# Altium integrated library WD Communication Protocol Controller.IntLib: 39 symbols
Pins are listed as number, name and electrical type; pins without a type are passive.

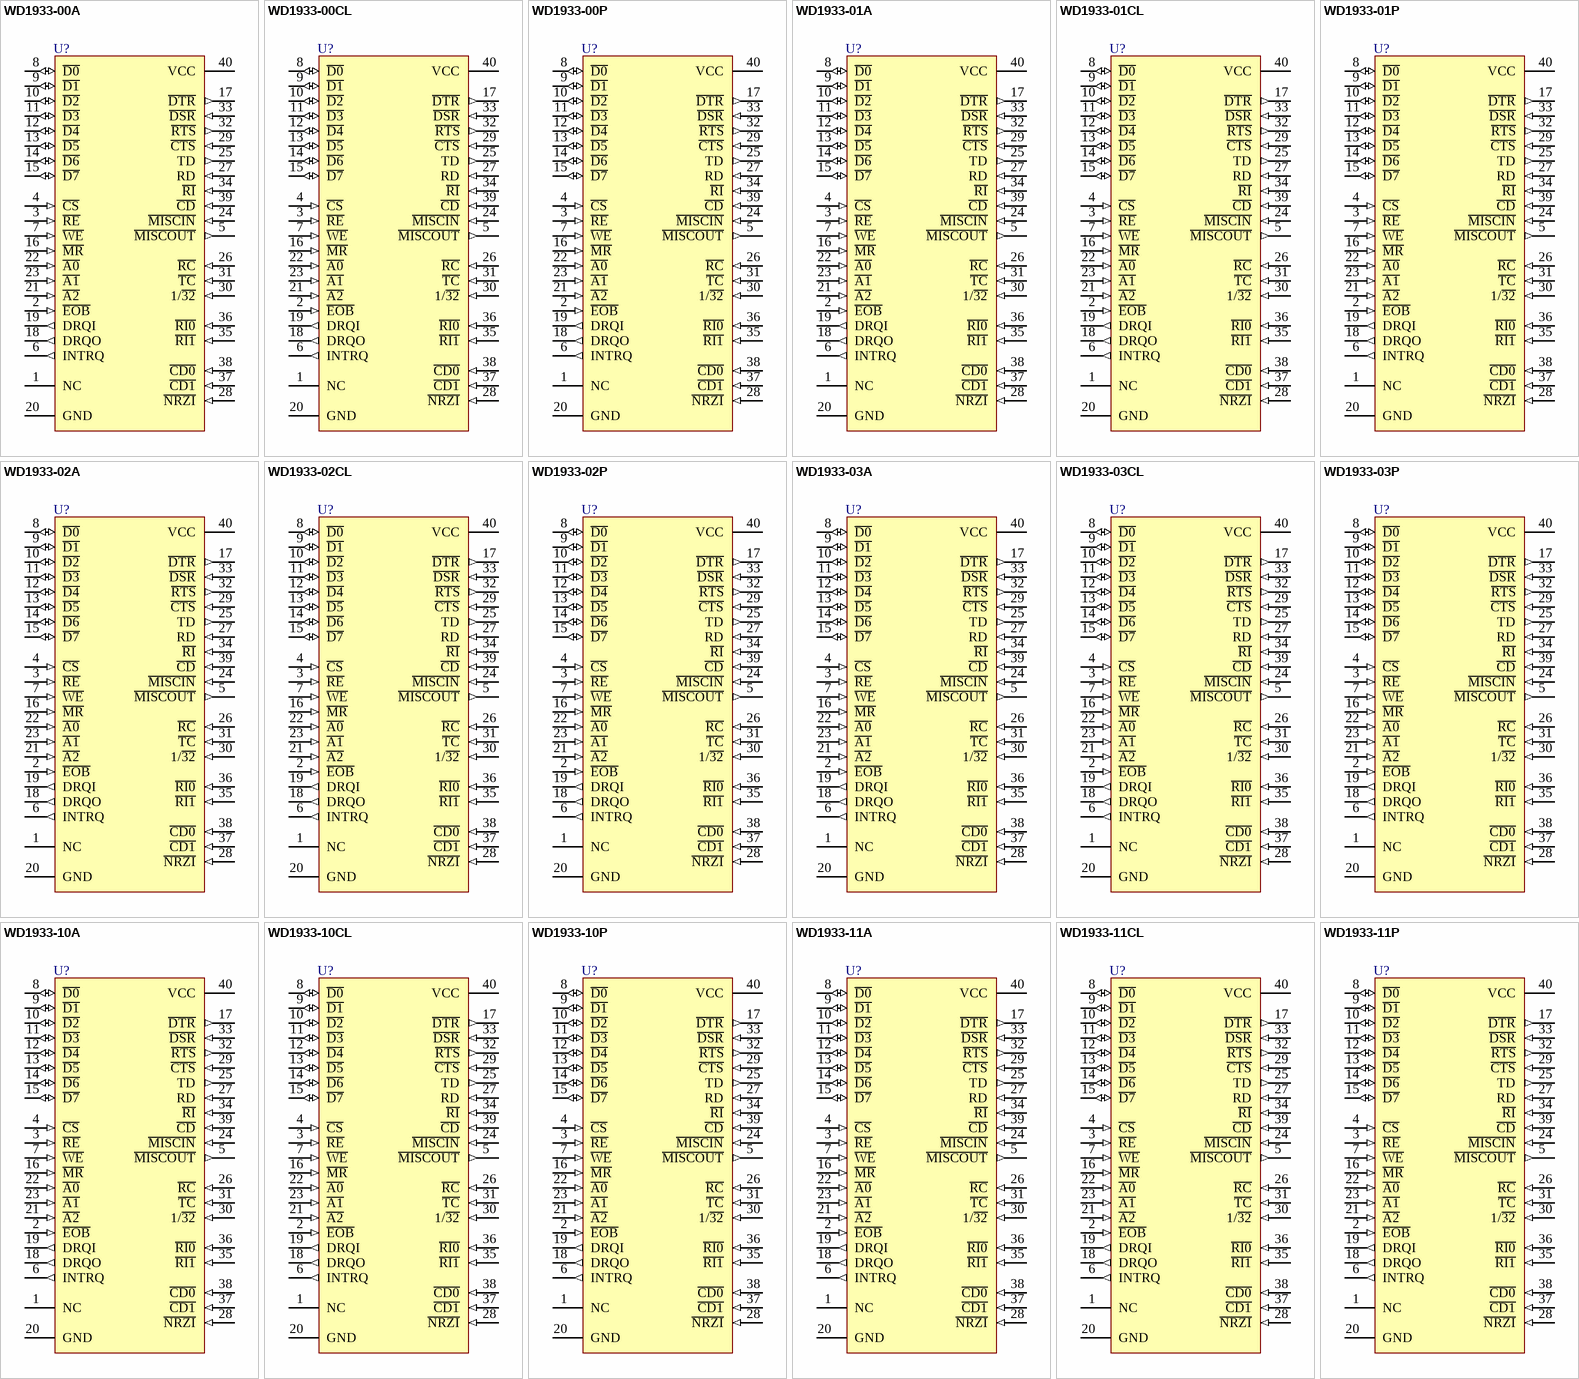
[diagram p0: symbols WD1933-00A to WD1933-11P]

## WD1933-00A
designator U?
Synchronous Data Link Controller; PackageDocument: 1984; Published: 8-Jun-2000; LatestRevisionDate: 4-Mar-2005; LatestRevisionNote: Stylized 3D Model Added.; DatasheetDocument: 1984; PackageReference: A40; Publisher: Altium Limited; ComponentLink1Description: Manufacturer Link; ComponentLink1URL: http://www.wdc.com/
footprint A40 (DIP; 40 Leads; Row Spacing 15.24 mm; Pitch 2.54 mm)
3D model A40 (DIP; 40 Leads; Row Spacing 15.24 mm; Pitch 2.54 mm)
pins: 1 NC, 2 ~{EOB} (in), 3 ~{RE} (in), 4 ~{CS} (in), 5 ~{MISCOUT} (out), 6 INTRQ (out), 7 ~{WE} (in), 8 ~{D0} (io), 9 ~{D1} (io), 10 ~{D2} (io), 11 ~{D3} (io), 12 ~{D4} (io), 13 ~{D5} (io), 14 ~{D6} (io), 15 ~{D7} (io), 16 ~{MR} (in), 17 ~{DTR} (out), 18 DRQO (out), 19 DRQI (out), 20 GND (power), 21 ~{A2} (in), 22 ~{A0} (in), 23 ~{A1} (in), 24 ~{MISCIN} (in), 25 TD (out), 26 ~{RC} (in), 27 RD (in), 28 ~{NRZI} (in), 29 ~{CTS} (in), 30 1/~{32} (in), 31 ~{TC} (in), 32 ~{RTS} (out), 33 ~{DSR} (in), 34 ~{RI} (in), 35 ~{RI1} (in), 36 ~{RI0} (in), 37 ~{CD1} (in), 38 ~{CD0} (in), 39 ~{CD} (in), 40 VCC (power)

## WD1933-00CL
designator U?
Synchronous Data Link Controller; PackageDocument: 1984; Published: 8-Jun-2000; LatestRevisionDate: 4-Mar-2005; LatestRevisionNote: Stylized 3D Model Added.; DatasheetDocument: 1984; PackageReference: CL40; Publisher: Altium Limited; ComponentLink1Description: Manufacturer Link; ComponentLink1URL: http://www.wdc.com/
footprint CL40 (DIP; 40 Leads; Row Spacing 15.24 mm; Pitch 2.54 mm)
3D model P40 (DIP; 40 Leads; Row Spacing 15.24 mm; Pitch 2.54 mm)
pins: 1 NC, 2 ~{EOB} (in), 3 ~{RE} (in), 4 ~{CS} (in), 5 ~{MISCOUT} (out), 6 INTRQ (out), 7 ~{WE} (in), 8 ~{D0} (io), 9 ~{D1} (io), 10 ~{D2} (io), 11 ~{D3} (io), 12 ~{D4} (io), 13 ~{D5} (io), 14 ~{D6} (io), 15 ~{D7} (io), 16 ~{MR} (in), 17 ~{DTR} (out), 18 DRQO (out), 19 DRQI (out), 20 GND (power), 21 ~{A2} (in), 22 ~{A0} (in), 23 ~{A1} (in), 24 ~{MISCIN} (in), 25 TD (out), 26 ~{RC} (in), 27 RD (in), 28 ~{NRZI} (in), 29 ~{CTS} (in), 30 1/~{32} (in), 31 ~{TC} (in), 32 ~{RTS} (out), 33 ~{DSR} (in), 34 ~{RI} (in), 35 ~{RI1} (in), 36 ~{RI0} (in), 37 ~{CD1} (in), 38 ~{CD0} (in), 39 ~{CD} (in), 40 VCC (power)

## WD1933-00P
designator U?
Synchronous Data Link Controller; PackageDocument: 1984; Published: 8-Jun-2000; LatestRevisionDate: 4-Mar-2005; LatestRevisionNote: Stylized 3D Model Added.; DatasheetDocument: 1984; PackageReference: P40; Publisher: Altium Limited; ComponentLink1Description: Manufacturer Link; ComponentLink1URL: http://www.wdc.com/
footprint P40 (DIP; 40 Leads; Row Spacing 15.24 mm; Pitch 2.54 mm)
3D model P40 (DIP; 40 Leads; Row Spacing 15.24 mm; Pitch 2.54 mm)
pins: 1 NC, 2 ~{EOB} (in), 3 ~{RE} (in), 4 ~{CS} (in), 5 ~{MISCOUT} (out), 6 INTRQ (out), 7 ~{WE} (in), 8 ~{D0} (io), 9 ~{D1} (io), 10 ~{D2} (io), 11 ~{D3} (io), 12 ~{D4} (io), 13 ~{D5} (io), 14 ~{D6} (io), 15 ~{D7} (io), 16 ~{MR} (in), 17 ~{DTR} (out), 18 DRQO (out), 19 DRQI (out), 20 GND (power), 21 ~{A2} (in), 22 ~{A0} (in), 23 ~{A1} (in), 24 ~{MISCIN} (in), 25 TD (out), 26 ~{RC} (in), 27 RD (in), 28 ~{NRZI} (in), 29 ~{CTS} (in), 30 1/~{32} (in), 31 ~{TC} (in), 32 ~{RTS} (out), 33 ~{DSR} (in), 34 ~{RI} (in), 35 ~{RI1} (in), 36 ~{RI0} (in), 37 ~{CD1} (in), 38 ~{CD0} (in), 39 ~{CD} (in), 40 VCC (power)

## WD1933-01A
designator U?
Synchronous Data Link Controller; PackageDocument: 1984; Published: 8-Jun-2000; LatestRevisionDate: 4-Mar-2005; LatestRevisionNote: Stylized 3D Model Added.; DatasheetDocument: 1984; PackageReference: A40; Publisher: Altium Limited; ComponentLink1Description: Manufacturer Link; ComponentLink1URL: http://www.wdc.com/
footprint A40 (DIP; 40 Leads; Row Spacing 15.24 mm; Pitch 2.54 mm)
3D model A40 (DIP; 40 Leads; Row Spacing 15.24 mm; Pitch 2.54 mm)
pins: 1 NC, 2 ~{EOB} (in), 3 ~{RE} (in), 4 ~{CS} (in), 5 ~{MISCOUT} (out), 6 INTRQ (out), 7 ~{WE} (in), 8 ~{D0} (io), 9 ~{D1} (io), 10 ~{D2} (io), 11 ~{D3} (io), 12 ~{D4} (io), 13 ~{D5} (io), 14 ~{D6} (io), 15 ~{D7} (io), 16 ~{MR} (in), 17 ~{DTR} (out), 18 DRQO (out), 19 DRQI (out), 20 GND (power), 21 ~{A2} (in), 22 ~{A0} (in), 23 ~{A1} (in), 24 ~{MISCIN} (in), 25 TD (out), 26 ~{RC} (in), 27 RD (in), 28 ~{NRZI} (in), 29 ~{CTS} (in), 30 1/~{32} (in), 31 ~{TC} (in), 32 ~{RTS} (out), 33 ~{DSR} (in), 34 ~{RI} (in), 35 ~{RI1} (in), 36 ~{RI0} (in), 37 ~{CD1} (in), 38 ~{CD0} (in), 39 ~{CD} (in), 40 VCC (power)

## WD1933-01CL
designator U?
Synchronous Data Link Controller; PackageDocument: 1984; Published: 8-Jun-2000; LatestRevisionDate: 4-Mar-2005; LatestRevisionNote: Stylized 3D Model Added.; DatasheetDocument: 1984; PackageReference: CL40; Publisher: Altium Limited; ComponentLink1Description: Manufacturer Link; ComponentLink1URL: http://www.wdc.com/
footprint CL40 (DIP; 40 Leads; Row Spacing 15.24 mm; Pitch 2.54 mm)
3D model P40 (DIP; 40 Leads; Row Spacing 15.24 mm; Pitch 2.54 mm)
pins: 1 NC, 2 ~{EOB} (in), 3 ~{RE} (in), 4 ~{CS} (in), 5 ~{MISCOUT} (out), 6 INTRQ (out), 7 ~{WE} (in), 8 ~{D0} (io), 9 ~{D1} (io), 10 ~{D2} (io), 11 ~{D3} (io), 12 ~{D4} (io), 13 ~{D5} (io), 14 ~{D6} (io), 15 ~{D7} (io), 16 ~{MR} (in), 17 ~{DTR} (out), 18 DRQO (out), 19 DRQI (out), 20 GND (power), 21 ~{A2} (in), 22 ~{A0} (in), 23 ~{A1} (in), 24 ~{MISCIN} (in), 25 TD (out), 26 ~{RC} (in), 27 RD (in), 28 ~{NRZI} (in), 29 ~{CTS} (in), 30 1/~{32} (in), 31 ~{TC} (in), 32 ~{RTS} (out), 33 ~{DSR} (in), 34 ~{RI} (in), 35 ~{RI1} (in), 36 ~{RI0} (in), 37 ~{CD1} (in), 38 ~{CD0} (in), 39 ~{CD} (in), 40 VCC (power)

## WD1933-01P
designator U?
Synchronous Data Link Controller; PackageDocument: 1984; Published: 8-Jun-2000; LatestRevisionDate: 4-Mar-2005; LatestRevisionNote: Stylized 3D Model Added.; DatasheetDocument: 1984; PackageReference: P40; Publisher: Altium Limited; ComponentLink1Description: Manufacturer Link; ComponentLink1URL: http://www.wdc.com/
footprint P40 (DIP; 40 Leads; Row Spacing 15.24 mm; Pitch 2.54 mm)
3D model P40 (DIP; 40 Leads; Row Spacing 15.24 mm; Pitch 2.54 mm)
pins: 1 NC, 2 ~{EOB} (in), 3 ~{RE} (in), 4 ~{CS} (in), 5 ~{MISCOUT} (out), 6 INTRQ (out), 7 ~{WE} (in), 8 ~{D0} (io), 9 ~{D1} (io), 10 ~{D2} (io), 11 ~{D3} (io), 12 ~{D4} (io), 13 ~{D5} (io), 14 ~{D6} (io), 15 ~{D7} (io), 16 ~{MR} (in), 17 ~{DTR} (out), 18 DRQO (out), 19 DRQI (out), 20 GND (power), 21 ~{A2} (in), 22 ~{A0} (in), 23 ~{A1} (in), 24 ~{MISCIN} (in), 25 TD (out), 26 ~{RC} (in), 27 RD (in), 28 ~{NRZI} (in), 29 ~{CTS} (in), 30 1/~{32} (in), 31 ~{TC} (in), 32 ~{RTS} (out), 33 ~{DSR} (in), 34 ~{RI} (in), 35 ~{RI1} (in), 36 ~{RI0} (in), 37 ~{CD1} (in), 38 ~{CD0} (in), 39 ~{CD} (in), 40 VCC (power)

## WD1933-02A
designator U?
Synchronous Data Link Controller; PackageDocument: 1984; Published: 8-Jun-2000; LatestRevisionDate: 4-Mar-2005; LatestRevisionNote: Stylized 3D Model Added.; DatasheetDocument: 1984; PackageReference: A40; Publisher: Altium Limited; ComponentLink1Description: Manufacturer Link; ComponentLink1URL: http://www.wdc.com/
footprint A40 (DIP; 40 Leads; Row Spacing 15.24 mm; Pitch 2.54 mm)
3D model A40 (DIP; 40 Leads; Row Spacing 15.24 mm; Pitch 2.54 mm)
pins: 1 NC, 2 ~{EOB} (in), 3 ~{RE} (in), 4 ~{CS} (in), 5 ~{MISCOUT} (out), 6 INTRQ (out), 7 ~{WE} (in), 8 ~{D0} (io), 9 ~{D1} (io), 10 ~{D2} (io), 11 ~{D3} (io), 12 ~{D4} (io), 13 ~{D5} (io), 14 ~{D6} (io), 15 ~{D7} (io), 16 ~{MR} (in), 17 ~{DTR} (out), 18 DRQO (out), 19 DRQI (out), 20 GND (power), 21 ~{A2} (in), 22 ~{A0} (in), 23 ~{A1} (in), 24 ~{MISCIN} (in), 25 TD (out), 26 ~{RC} (in), 27 RD (in), 28 ~{NRZI} (in), 29 ~{CTS} (in), 30 1/~{32} (in), 31 ~{TC} (in), 32 ~{RTS} (out), 33 ~{DSR} (in), 34 ~{RI} (in), 35 ~{RI1} (in), 36 ~{RI0} (in), 37 ~{CD1} (in), 38 ~{CD0} (in), 39 ~{CD} (in), 40 VCC (power)

## WD1933-02CL
designator U?
Synchronous Data Link Controller; PackageDocument: 1984; Published: 8-Jun-2000; LatestRevisionDate: 4-Mar-2005; LatestRevisionNote: Stylized 3D Model Added.; DatasheetDocument: 1984; PackageReference: CL40; Publisher: Altium Limited; ComponentLink1Description: Manufacturer Link; ComponentLink1URL: http://www.wdc.com/
footprint CL40 (DIP; 40 Leads; Row Spacing 15.24 mm; Pitch 2.54 mm)
3D model P40 (DIP; 40 Leads; Row Spacing 15.24 mm; Pitch 2.54 mm)
pins: 1 NC, 2 ~{EOB} (in), 3 ~{RE} (in), 4 ~{CS} (in), 5 ~{MISCOUT} (out), 6 INTRQ (out), 7 ~{WE} (in), 8 ~{D0} (io), 9 ~{D1} (io), 10 ~{D2} (io), 11 ~{D3} (io), 12 ~{D4} (io), 13 ~{D5} (io), 14 ~{D6} (io), 15 ~{D7} (io), 16 ~{MR} (in), 17 ~{DTR} (out), 18 DRQO (out), 19 DRQI (out), 20 GND (power), 21 ~{A2} (in), 22 ~{A0} (in), 23 ~{A1} (in), 24 ~{MISCIN} (in), 25 TD (out), 26 ~{RC} (in), 27 RD (in), 28 ~{NRZI} (in), 29 ~{CTS} (in), 30 1/~{32} (in), 31 ~{TC} (in), 32 ~{RTS} (out), 33 ~{DSR} (in), 34 ~{RI} (in), 35 ~{RI1} (in), 36 ~{RI0} (in), 37 ~{CD1} (in), 38 ~{CD0} (in), 39 ~{CD} (in), 40 VCC (power)

## WD1933-02P
designator U?
Synchronous Data Link Controller; PackageDocument: 1984; Published: 8-Jun-2000; LatestRevisionDate: 4-Mar-2005; LatestRevisionNote: Stylized 3D Model Added.; DatasheetDocument: 1984; PackageReference: P40; Publisher: Altium Limited; ComponentLink1Description: Manufacturer Link; ComponentLink1URL: http://www.wdc.com/
footprint P40 (DIP; 40 Leads; Row Spacing 15.24 mm; Pitch 2.54 mm)
3D model P40 (DIP; 40 Leads; Row Spacing 15.24 mm; Pitch 2.54 mm)
pins: 1 NC, 2 ~{EOB} (in), 3 ~{RE} (in), 4 ~{CS} (in), 5 ~{MISCOUT} (out), 6 INTRQ (out), 7 ~{WE} (in), 8 ~{D0} (io), 9 ~{D1} (io), 10 ~{D2} (io), 11 ~{D3} (io), 12 ~{D4} (io), 13 ~{D5} (io), 14 ~{D6} (io), 15 ~{D7} (io), 16 ~{MR} (in), 17 ~{DTR} (out), 18 DRQO (out), 19 DRQI (out), 20 GND (power), 21 ~{A2} (in), 22 ~{A0} (in), 23 ~{A1} (in), 24 ~{MISCIN} (in), 25 TD (out), 26 ~{RC} (in), 27 RD (in), 28 ~{NRZI} (in), 29 ~{CTS} (in), 30 1/~{32} (in), 31 ~{TC} (in), 32 ~{RTS} (out), 33 ~{DSR} (in), 34 ~{RI} (in), 35 ~{RI1} (in), 36 ~{RI0} (in), 37 ~{CD1} (in), 38 ~{CD0} (in), 39 ~{CD} (in), 40 VCC (power)

## WD1933-03A
designator U?
Synchronous Data Link Controller; PackageDocument: 1984; Published: 8-Jun-2000; LatestRevisionDate: 4-Mar-2005; LatestRevisionNote: Stylized 3D Model Added.; DatasheetDocument: 1984; PackageReference: A40; Publisher: Altium Limited; ComponentLink1Description: Manufacturer Link; ComponentLink1URL: http://www.wdc.com/
footprint A40 (DIP; 40 Leads; Row Spacing 15.24 mm; Pitch 2.54 mm)
3D model A40 (DIP; 40 Leads; Row Spacing 15.24 mm; Pitch 2.54 mm)
pins: 1 NC, 2 ~{EOB} (in), 3 ~{RE} (in), 4 ~{CS} (in), 5 ~{MISCOUT} (out), 6 INTRQ (out), 7 ~{WE} (in), 8 ~{D0} (io), 9 ~{D1} (io), 10 ~{D2} (io), 11 ~{D3} (io), 12 ~{D4} (io), 13 ~{D5} (io), 14 ~{D6} (io), 15 ~{D7} (io), 16 ~{MR} (in), 17 ~{DTR} (out), 18 DRQO (out), 19 DRQI (out), 20 GND (power), 21 ~{A2} (in), 22 ~{A0} (in), 23 ~{A1} (in), 24 ~{MISCIN} (in), 25 TD (out), 26 ~{RC} (in), 27 RD (in), 28 ~{NRZI} (in), 29 ~{CTS} (in), 30 1/~{32} (in), 31 ~{TC} (in), 32 ~{RTS} (out), 33 ~{DSR} (in), 34 ~{RI} (in), 35 ~{RI1} (in), 36 ~{RI0} (in), 37 ~{CD1} (in), 38 ~{CD0} (in), 39 ~{CD} (in), 40 VCC (power)

## WD1933-03CL
designator U?
Synchronous Data Link Controller; PackageDocument: 1984; Published: 8-Jun-2000; LatestRevisionDate: 4-Mar-2005; LatestRevisionNote: Stylized 3D Model Added.; DatasheetDocument: 1984; PackageReference: CL40; Publisher: Altium Limited; ComponentLink1Description: Manufacturer Link; ComponentLink1URL: http://www.wdc.com/
footprint CL40 (DIP; 40 Leads; Row Spacing 15.24 mm; Pitch 2.54 mm)
3D model P40 (DIP; 40 Leads; Row Spacing 15.24 mm; Pitch 2.54 mm)
pins: 1 NC, 2 ~{EOB} (in), 3 ~{RE} (in), 4 ~{CS} (in), 5 ~{MISCOUT} (out), 6 INTRQ (out), 7 ~{WE} (in), 8 ~{D0} (io), 9 ~{D1} (io), 10 ~{D2} (io), 11 ~{D3} (io), 12 ~{D4} (io), 13 ~{D5} (io), 14 ~{D6} (io), 15 ~{D7} (io), 16 ~{MR} (in), 17 ~{DTR} (out), 18 DRQO (out), 19 DRQI (out), 20 GND (power), 21 ~{A2} (in), 22 ~{A0} (in), 23 ~{A1} (in), 24 ~{MISCIN} (in), 25 TD (out), 26 ~{RC} (in), 27 RD (in), 28 ~{NRZI} (in), 29 ~{CTS} (in), 30 1/~{32} (in), 31 ~{TC} (in), 32 ~{RTS} (out), 33 ~{DSR} (in), 34 ~{RI} (in), 35 ~{RI1} (in), 36 ~{RI0} (in), 37 ~{CD1} (in), 38 ~{CD0} (in), 39 ~{CD} (in), 40 VCC (power)

## WD1933-03P
designator U?
Synchronous Data Link Controller; PackageDocument: 1984; Published: 8-Jun-2000; LatestRevisionDate: 4-Mar-2005; LatestRevisionNote: Stylized 3D Model Added.; DatasheetDocument: 1984; PackageReference: P40; Publisher: Altium Limited; ComponentLink1Description: Manufacturer Link; ComponentLink1URL: http://www.wdc.com/
footprint P40 (DIP; 40 Leads; Row Spacing 15.24 mm; Pitch 2.54 mm)
3D model P40 (DIP; 40 Leads; Row Spacing 15.24 mm; Pitch 2.54 mm)
pins: 1 NC, 2 ~{EOB} (in), 3 ~{RE} (in), 4 ~{CS} (in), 5 ~{MISCOUT} (out), 6 INTRQ (out), 7 ~{WE} (in), 8 ~{D0} (io), 9 ~{D1} (io), 10 ~{D2} (io), 11 ~{D3} (io), 12 ~{D4} (io), 13 ~{D5} (io), 14 ~{D6} (io), 15 ~{D7} (io), 16 ~{MR} (in), 17 ~{DTR} (out), 18 DRQO (out), 19 DRQI (out), 20 GND (power), 21 ~{A2} (in), 22 ~{A0} (in), 23 ~{A1} (in), 24 ~{MISCIN} (in), 25 TD (out), 26 ~{RC} (in), 27 RD (in), 28 ~{NRZI} (in), 29 ~{CTS} (in), 30 1/~{32} (in), 31 ~{TC} (in), 32 ~{RTS} (out), 33 ~{DSR} (in), 34 ~{RI} (in), 35 ~{RI1} (in), 36 ~{RI0} (in), 37 ~{CD1} (in), 38 ~{CD0} (in), 39 ~{CD} (in), 40 VCC (power)

## WD1933-10A
designator U?
Synchronous Data Link Controller; PackageDocument: 1984; Published: 8-Jun-2000; LatestRevisionDate: 4-Mar-2005; LatestRevisionNote: Stylized 3D Model Added.; DatasheetDocument: 1984; PackageReference: A40; Publisher: Altium Limited; ComponentLink1Description: Manufacturer Link; ComponentLink1URL: http://www.wdc.com/
footprint A40 (DIP; 40 Leads; Row Spacing 15.24 mm; Pitch 2.54 mm)
3D model A40 (DIP; 40 Leads; Row Spacing 15.24 mm; Pitch 2.54 mm)
pins: 1 NC, 2 ~{EOB} (in), 3 ~{RE} (in), 4 ~{CS} (in), 5 ~{MISCOUT} (out), 6 INTRQ (out), 7 ~{WE} (in), 8 ~{D0} (io), 9 ~{D1} (io), 10 ~{D2} (io), 11 ~{D3} (io), 12 ~{D4} (io), 13 ~{D5} (io), 14 ~{D6} (io), 15 ~{D7} (io), 16 ~{MR} (in), 17 ~{DTR} (out), 18 DRQO (out), 19 DRQI (out), 20 GND (power), 21 ~{A2} (in), 22 ~{A0} (in), 23 ~{A1} (in), 24 ~{MISCIN} (in), 25 TD (out), 26 ~{RC} (in), 27 RD (in), 28 ~{NRZI} (in), 29 ~{CTS} (in), 30 1/~{32} (in), 31 ~{TC} (in), 32 ~{RTS} (out), 33 ~{DSR} (in), 34 ~{RI} (in), 35 ~{RI1} (in), 36 ~{RI0} (in), 37 ~{CD1} (in), 38 ~{CD0} (in), 39 ~{CD} (in), 40 VCC (power)

## WD1933-10CL
designator U?
Synchronous Data Link Controller; PackageDocument: 1984; Published: 8-Jun-2000; LatestRevisionDate: 4-Mar-2005; LatestRevisionNote: Stylized 3D Model Added.; DatasheetDocument: 1984; PackageReference: CL40; Publisher: Altium Limited; ComponentLink1Description: Manufacturer Link; ComponentLink1URL: http://www.wdc.com/
footprint CL40 (DIP; 40 Leads; Row Spacing 15.24 mm; Pitch 2.54 mm)
3D model P40 (DIP; 40 Leads; Row Spacing 15.24 mm; Pitch 2.54 mm)
pins: 1 NC, 2 ~{EOB} (in), 3 ~{RE} (in), 4 ~{CS} (in), 5 ~{MISCOUT} (out), 6 INTRQ (out), 7 ~{WE} (in), 8 ~{D0} (io), 9 ~{D1} (io), 10 ~{D2} (io), 11 ~{D3} (io), 12 ~{D4} (io), 13 ~{D5} (io), 14 ~{D6} (io), 15 ~{D7} (io), 16 ~{MR} (in), 17 ~{DTR} (out), 18 DRQO (out), 19 DRQI (out), 20 GND (power), 21 ~{A2} (in), 22 ~{A0} (in), 23 ~{A1} (in), 24 ~{MISCIN} (in), 25 TD (out), 26 ~{RC} (in), 27 RD (in), 28 ~{NRZI} (in), 29 ~{CTS} (in), 30 1/~{32} (in), 31 ~{TC} (in), 32 ~{RTS} (out), 33 ~{DSR} (in), 34 ~{RI} (in), 35 ~{RI1} (in), 36 ~{RI0} (in), 37 ~{CD1} (in), 38 ~{CD0} (in), 39 ~{CD} (in), 40 VCC (power)

## WD1933-10P
designator U?
Synchronous Data Link Controller; PackageDocument: 1984; Published: 8-Jun-2000; LatestRevisionDate: 4-Mar-2005; LatestRevisionNote: Stylized 3D Model Added.; DatasheetDocument: 1984; PackageReference: P40; Publisher: Altium Limited; ComponentLink1Description: Manufacturer Link; ComponentLink1URL: http://www.wdc.com/
footprint P40 (DIP; 40 Leads; Row Spacing 15.24 mm; Pitch 2.54 mm)
3D model P40 (DIP; 40 Leads; Row Spacing 15.24 mm; Pitch 2.54 mm)
pins: 1 NC, 2 ~{EOB} (in), 3 ~{RE} (in), 4 ~{CS} (in), 5 ~{MISCOUT} (out), 6 INTRQ (out), 7 ~{WE} (in), 8 ~{D0} (io), 9 ~{D1} (io), 10 ~{D2} (io), 11 ~{D3} (io), 12 ~{D4} (io), 13 ~{D5} (io), 14 ~{D6} (io), 15 ~{D7} (io), 16 ~{MR} (in), 17 ~{DTR} (out), 18 DRQO (out), 19 DRQI (out), 20 GND (power), 21 ~{A2} (in), 22 ~{A0} (in), 23 ~{A1} (in), 24 ~{MISCIN} (in), 25 TD (out), 26 ~{RC} (in), 27 RD (in), 28 ~{NRZI} (in), 29 ~{CTS} (in), 30 1/~{32} (in), 31 ~{TC} (in), 32 ~{RTS} (out), 33 ~{DSR} (in), 34 ~{RI} (in), 35 ~{RI1} (in), 36 ~{RI0} (in), 37 ~{CD1} (in), 38 ~{CD0} (in), 39 ~{CD} (in), 40 VCC (power)

## WD1933-11A
designator U?
Synchronous Data Link Controller; PackageDocument: 1984; Published: 8-Jun-2000; LatestRevisionDate: 4-Mar-2005; LatestRevisionNote: Stylized 3D Model Added.; DatasheetDocument: 1984; PackageReference: A40; Publisher: Altium Limited; ComponentLink1Description: Manufacturer Link; ComponentLink1URL: http://www.wdc.com/
footprint A40 (DIP; 40 Leads; Row Spacing 15.24 mm; Pitch 2.54 mm)
3D model A40 (DIP; 40 Leads; Row Spacing 15.24 mm; Pitch 2.54 mm)
pins: 1 NC, 2 ~{EOB} (in), 3 ~{RE} (in), 4 ~{CS} (in), 5 ~{MISCOUT} (out), 6 INTRQ (out), 7 ~{WE} (in), 8 ~{D0} (io), 9 ~{D1} (io), 10 ~{D2} (io), 11 ~{D3} (io), 12 ~{D4} (io), 13 ~{D5} (io), 14 ~{D6} (io), 15 ~{D7} (io), 16 ~{MR} (in), 17 ~{DTR} (out), 18 DRQO (out), 19 DRQI (out), 20 GND (power), 21 ~{A2} (in), 22 ~{A0} (in), 23 ~{A1} (in), 24 ~{MISCIN} (in), 25 TD (out), 26 ~{RC} (in), 27 RD (in), 28 ~{NRZI} (in), 29 ~{CTS} (in), 30 1/~{32} (in), 31 ~{TC} (in), 32 ~{RTS} (out), 33 ~{DSR} (in), 34 ~{RI} (in), 35 ~{RI1} (in), 36 ~{RI0} (in), 37 ~{CD1} (in), 38 ~{CD0} (in), 39 ~{CD} (in), 40 VCC (power)

## WD1933-11CL
designator U?
Synchronous Data Link Controller; PackageDocument: 1984; Published: 8-Jun-2000; LatestRevisionDate: 4-Mar-2005; LatestRevisionNote: Stylized 3D Model Added.; DatasheetDocument: 1984; PackageReference: CL40; Publisher: Altium Limited; ComponentLink1Description: Manufacturer Link; ComponentLink1URL: http://www.wdc.com/
footprint CL40 (DIP; 40 Leads; Row Spacing 15.24 mm; Pitch 2.54 mm)
3D model P40 (DIP; 40 Leads; Row Spacing 15.24 mm; Pitch 2.54 mm)
pins: 1 NC, 2 ~{EOB} (in), 3 ~{RE} (in), 4 ~{CS} (in), 5 ~{MISCOUT} (out), 6 INTRQ (out), 7 ~{WE} (in), 8 ~{D0} (io), 9 ~{D1} (io), 10 ~{D2} (io), 11 ~{D3} (io), 12 ~{D4} (io), 13 ~{D5} (io), 14 ~{D6} (io), 15 ~{D7} (io), 16 ~{MR} (in), 17 ~{DTR} (out), 18 DRQO (out), 19 DRQI (out), 20 GND (power), 21 ~{A2} (in), 22 ~{A0} (in), 23 ~{A1} (in), 24 ~{MISCIN} (in), 25 TD (out), 26 ~{RC} (in), 27 RD (in), 28 ~{NRZI} (in), 29 ~{CTS} (in), 30 1/~{32} (in), 31 ~{TC} (in), 32 ~{RTS} (out), 33 ~{DSR} (in), 34 ~{RI} (in), 35 ~{RI1} (in), 36 ~{RI0} (in), 37 ~{CD1} (in), 38 ~{CD0} (in), 39 ~{CD} (in), 40 VCC (power)

## WD1933-11P
designator U?
Synchronous Data Link Controller; PackageDocument: 1984; Published: 8-Jun-2000; LatestRevisionDate: 4-Mar-2005; LatestRevisionNote: Stylized 3D Model Added.; DatasheetDocument: 1984; PackageReference: P40; Publisher: Altium Limited; ComponentLink1Description: Manufacturer Link; ComponentLink1URL: http://www.wdc.com/
footprint P40 (DIP; 40 Leads; Row Spacing 15.24 mm; Pitch 2.54 mm)
3D model P40 (DIP; 40 Leads; Row Spacing 15.24 mm; Pitch 2.54 mm)
pins: 1 NC, 2 ~{EOB} (in), 3 ~{RE} (in), 4 ~{CS} (in), 5 ~{MISCOUT} (out), 6 INTRQ (out), 7 ~{WE} (in), 8 ~{D0} (io), 9 ~{D1} (io), 10 ~{D2} (io), 11 ~{D3} (io), 12 ~{D4} (io), 13 ~{D5} (io), 14 ~{D6} (io), 15 ~{D7} (io), 16 ~{MR} (in), 17 ~{DTR} (out), 18 DRQO (out), 19 DRQI (out), 20 GND (power), 21 ~{A2} (in), 22 ~{A0} (in), 23 ~{A1} (in), 24 ~{MISCIN} (in), 25 TD (out), 26 ~{RC} (in), 27 RD (in), 28 ~{NRZI} (in), 29 ~{CTS} (in), 30 1/~{32} (in), 31 ~{TC} (in), 32 ~{RTS} (out), 33 ~{DSR} (in), 34 ~{RI} (in), 35 ~{RI1} (in), 36 ~{RI0} (in), 37 ~{CD1} (in), 38 ~{CD0} (in), 39 ~{CD} (in), 40 VCC (power)

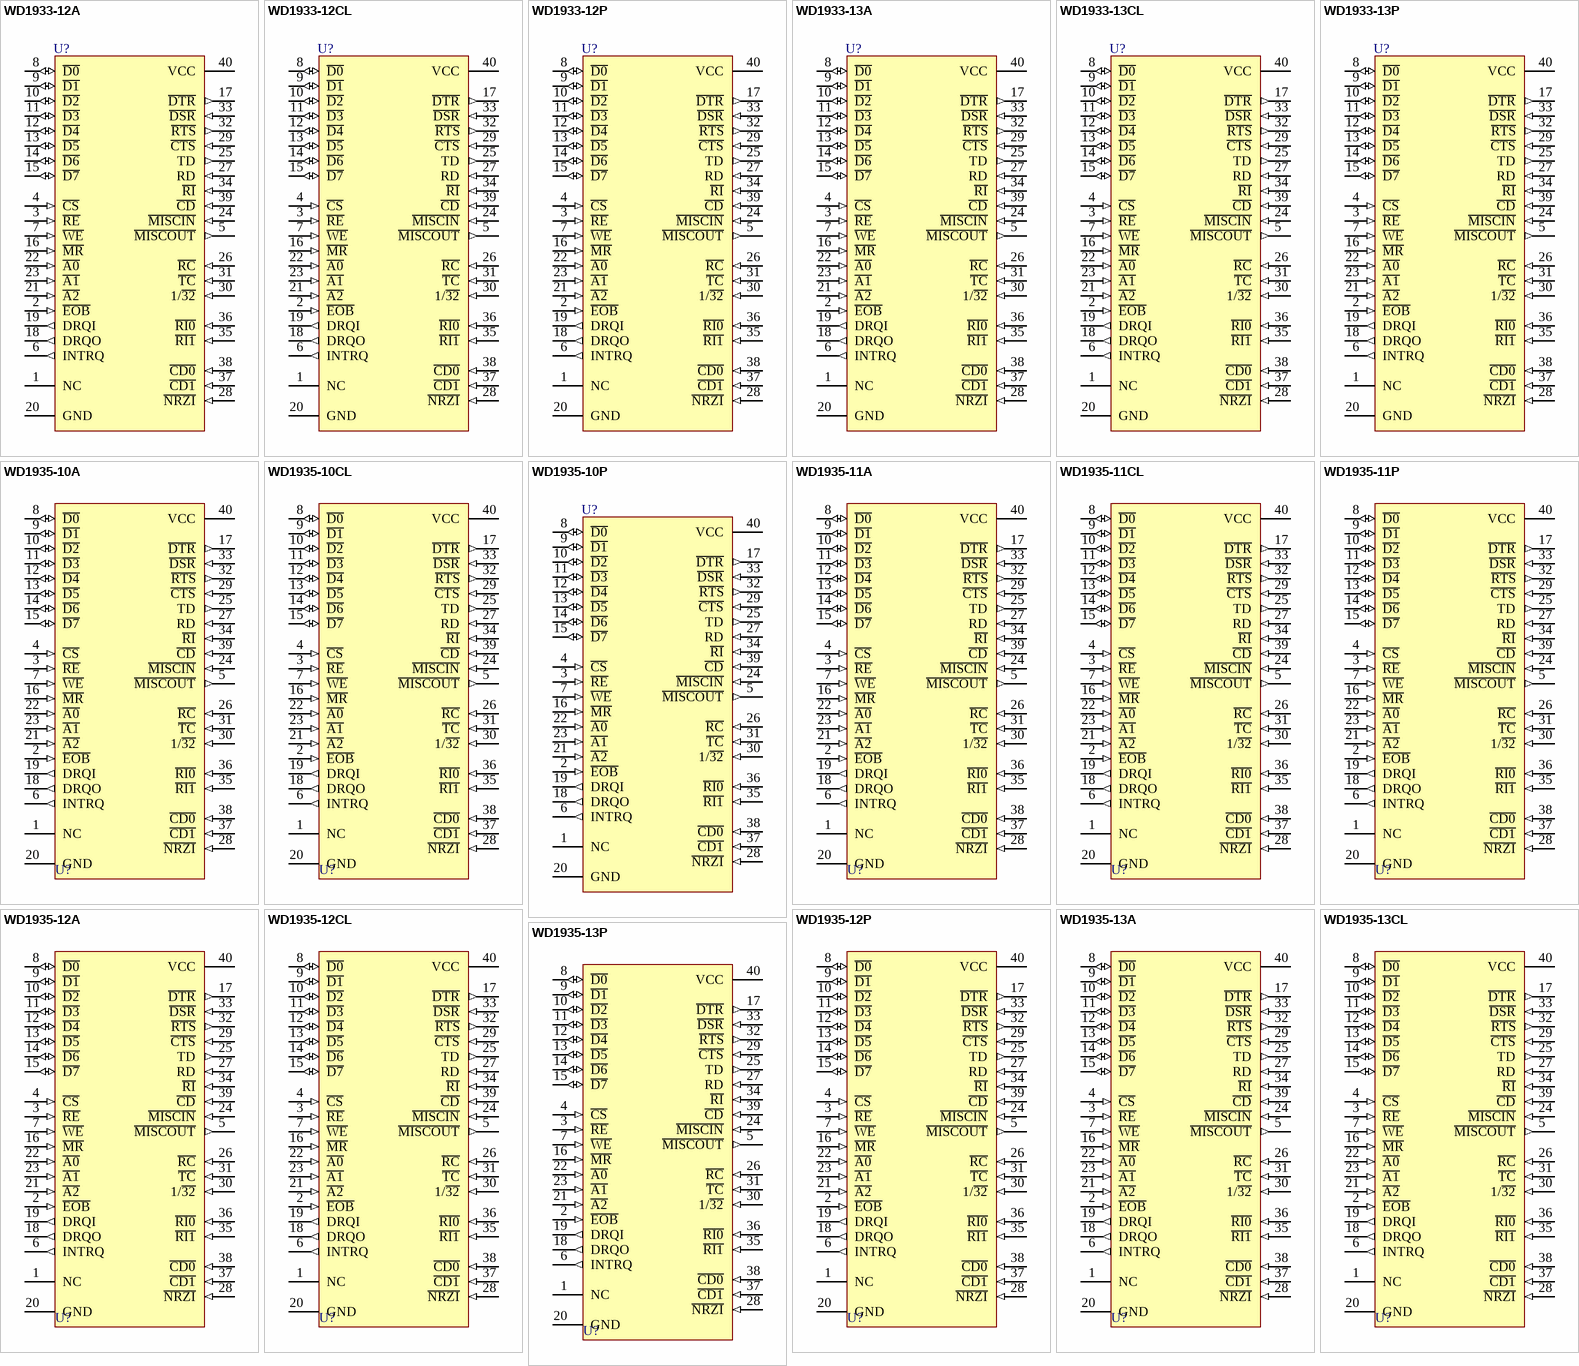
[diagram p1: symbols WD1933-12A to WD1935-13P]

## WD1933-12A
designator U?
Synchronous Data Link Controller; PackageDocument: 1984; Published: 8-Jun-2000; LatestRevisionDate: 4-Mar-2005; LatestRevisionNote: Stylized 3D Model Added.; DatasheetDocument: 1984; PackageReference: A40; Publisher: Altium Limited; ComponentLink1Description: Manufacturer Link; ComponentLink1URL: http://www.wdc.com/
footprint A40 (DIP; 40 Leads; Row Spacing 15.24 mm; Pitch 2.54 mm)
3D model A40 (DIP; 40 Leads; Row Spacing 15.24 mm; Pitch 2.54 mm)
pins: 1 NC, 2 ~{EOB} (in), 3 ~{RE} (in), 4 ~{CS} (in), 5 ~{MISCOUT} (out), 6 INTRQ (out), 7 ~{WE} (in), 8 ~{D0} (io), 9 ~{D1} (io), 10 ~{D2} (io), 11 ~{D3} (io), 12 ~{D4} (io), 13 ~{D5} (io), 14 ~{D6} (io), 15 ~{D7} (io), 16 ~{MR} (in), 17 ~{DTR} (out), 18 DRQO (out), 19 DRQI (out), 20 GND (power), 21 ~{A2} (in), 22 ~{A0} (in), 23 ~{A1} (in), 24 ~{MISCIN} (in), 25 TD (out), 26 ~{RC} (in), 27 RD (in), 28 ~{NRZI} (in), 29 ~{CTS} (in), 30 1/~{32} (in), 31 ~{TC} (in), 32 ~{RTS} (out), 33 ~{DSR} (in), 34 ~{RI} (in), 35 ~{RI1} (in), 36 ~{RI0} (in), 37 ~{CD1} (in), 38 ~{CD0} (in), 39 ~{CD} (in), 40 VCC (power)

## WD1933-12CL
designator U?
Synchronous Data Link Controller; PackageDocument: 1984; Published: 8-Jun-2000; LatestRevisionDate: 4-Mar-2005; LatestRevisionNote: Stylized 3D Model Added.; DatasheetDocument: 1984; PackageReference: CL40; Publisher: Altium Limited; ComponentLink1Description: Manufacturer Link; ComponentLink1URL: http://www.wdc.com/
footprint CL40 (DIP; 40 Leads; Row Spacing 15.24 mm; Pitch 2.54 mm)
3D model P40 (DIP; 40 Leads; Row Spacing 15.24 mm; Pitch 2.54 mm)
pins: 1 NC, 2 ~{EOB} (in), 3 ~{RE} (in), 4 ~{CS} (in), 5 ~{MISCOUT} (out), 6 INTRQ (out), 7 ~{WE} (in), 8 ~{D0} (io), 9 ~{D1} (io), 10 ~{D2} (io), 11 ~{D3} (io), 12 ~{D4} (io), 13 ~{D5} (io), 14 ~{D6} (io), 15 ~{D7} (io), 16 ~{MR} (in), 17 ~{DTR} (out), 18 DRQO (out), 19 DRQI (out), 20 GND (power), 21 ~{A2} (in), 22 ~{A0} (in), 23 ~{A1} (in), 24 ~{MISCIN} (in), 25 TD (out), 26 ~{RC} (in), 27 RD (in), 28 ~{NRZI} (in), 29 ~{CTS} (in), 30 1/~{32} (in), 31 ~{TC} (in), 32 ~{RTS} (out), 33 ~{DSR} (in), 34 ~{RI} (in), 35 ~{RI1} (in), 36 ~{RI0} (in), 37 ~{CD1} (in), 38 ~{CD0} (in), 39 ~{CD} (in), 40 VCC (power)

## WD1933-12P
designator U?
Synchronous Data Link Controller; PackageDocument: 1984; Published: 8-Jun-2000; LatestRevisionDate: 4-Mar-2005; LatestRevisionNote: Stylized 3D Model Added.; DatasheetDocument: 1984; PackageReference: P40; Publisher: Altium Limited; ComponentLink1Description: Manufacturer Link; ComponentLink1URL: http://www.wdc.com/
footprint P40 (DIP; 40 Leads; Row Spacing 15.24 mm; Pitch 2.54 mm)
3D model P40 (DIP; 40 Leads; Row Spacing 15.24 mm; Pitch 2.54 mm)
pins: 1 NC, 2 ~{EOB} (in), 3 ~{RE} (in), 4 ~{CS} (in), 5 ~{MISCOUT} (out), 6 INTRQ (out), 7 ~{WE} (in), 8 ~{D0} (io), 9 ~{D1} (io), 10 ~{D2} (io), 11 ~{D3} (io), 12 ~{D4} (io), 13 ~{D5} (io), 14 ~{D6} (io), 15 ~{D7} (io), 16 ~{MR} (in), 17 ~{DTR} (out), 18 DRQO (out), 19 DRQI (out), 20 GND (power), 21 ~{A2} (in), 22 ~{A0} (in), 23 ~{A1} (in), 24 ~{MISCIN} (in), 25 TD (out), 26 ~{RC} (in), 27 RD (in), 28 ~{NRZI} (in), 29 ~{CTS} (in), 30 1/~{32} (in), 31 ~{TC} (in), 32 ~{RTS} (out), 33 ~{DSR} (in), 34 ~{RI} (in), 35 ~{RI1} (in), 36 ~{RI0} (in), 37 ~{CD1} (in), 38 ~{CD0} (in), 39 ~{CD} (in), 40 VCC (power)

## WD1933-13A
designator U?
Synchronous Data Link Controller; PackageDocument: 1984; Published: 8-Jun-2000; LatestRevisionDate: 4-Mar-2005; LatestRevisionNote: Stylized 3D Model Added.; DatasheetDocument: 1984; PackageReference: A40; Publisher: Altium Limited; ComponentLink1Description: Manufacturer Link; ComponentLink1URL: http://www.wdc.com/
footprint A40 (DIP; 40 Leads; Row Spacing 15.24 mm; Pitch 2.54 mm)
3D model A40 (DIP; 40 Leads; Row Spacing 15.24 mm; Pitch 2.54 mm)
pins: 1 NC, 2 ~{EOB} (in), 3 ~{RE} (in), 4 ~{CS} (in), 5 ~{MISCOUT} (out), 6 INTRQ (out), 7 ~{WE} (in), 8 ~{D0} (io), 9 ~{D1} (io), 10 ~{D2} (io), 11 ~{D3} (io), 12 ~{D4} (io), 13 ~{D5} (io), 14 ~{D6} (io), 15 ~{D7} (io), 16 ~{MR} (in), 17 ~{DTR} (out), 18 DRQO (out), 19 DRQI (out), 20 GND (power), 21 ~{A2} (in), 22 ~{A0} (in), 23 ~{A1} (in), 24 ~{MISCIN} (in), 25 TD (out), 26 ~{RC} (in), 27 RD (in), 28 ~{NRZI} (in), 29 ~{CTS} (in), 30 1/~{32} (in), 31 ~{TC} (in), 32 ~{RTS} (out), 33 ~{DSR} (in), 34 ~{RI} (in), 35 ~{RI1} (in), 36 ~{RI0} (in), 37 ~{CD1} (in), 38 ~{CD0} (in), 39 ~{CD} (in), 40 VCC (power)

## WD1933-13CL
designator U?
Synchronous Data Link Controller; PackageDocument: 1984; Published: 8-Jun-2000; LatestRevisionDate: 4-Mar-2005; LatestRevisionNote: Stylized 3D Model Added.; DatasheetDocument: 1984; PackageReference: CL40; Publisher: Altium Limited; ComponentLink1Description: Manufacturer Link; ComponentLink1URL: http://www.wdc.com/
footprint CL40 (DIP; 40 Leads; Row Spacing 15.24 mm; Pitch 2.54 mm)
3D model P40 (DIP; 40 Leads; Row Spacing 15.24 mm; Pitch 2.54 mm)
pins: 1 NC, 2 ~{EOB} (in), 3 ~{RE} (in), 4 ~{CS} (in), 5 ~{MISCOUT} (out), 6 INTRQ (out), 7 ~{WE} (in), 8 ~{D0} (io), 9 ~{D1} (io), 10 ~{D2} (io), 11 ~{D3} (io), 12 ~{D4} (io), 13 ~{D5} (io), 14 ~{D6} (io), 15 ~{D7} (io), 16 ~{MR} (in), 17 ~{DTR} (out), 18 DRQO (out), 19 DRQI (out), 20 GND (power), 21 ~{A2} (in), 22 ~{A0} (in), 23 ~{A1} (in), 24 ~{MISCIN} (in), 25 TD (out), 26 ~{RC} (in), 27 RD (in), 28 ~{NRZI} (in), 29 ~{CTS} (in), 30 1/~{32} (in), 31 ~{TC} (in), 32 ~{RTS} (out), 33 ~{DSR} (in), 34 ~{RI} (in), 35 ~{RI1} (in), 36 ~{RI0} (in), 37 ~{CD1} (in), 38 ~{CD0} (in), 39 ~{CD} (in), 40 VCC (power)

## WD1933-13P
designator U?
Synchronous Data Link Controller; PackageDocument: 1984; Published: 8-Jun-2000; LatestRevisionDate: 4-Mar-2005; LatestRevisionNote: Stylized 3D Model Added.; DatasheetDocument: 1984; PackageReference: P40; Publisher: Altium Limited; ComponentLink1Description: Manufacturer Link; ComponentLink1URL: http://www.wdc.com/
footprint P40 (DIP; 40 Leads; Row Spacing 15.24 mm; Pitch 2.54 mm)
3D model P40 (DIP; 40 Leads; Row Spacing 15.24 mm; Pitch 2.54 mm)
pins: 1 NC, 2 ~{EOB} (in), 3 ~{RE} (in), 4 ~{CS} (in), 5 ~{MISCOUT} (out), 6 INTRQ (out), 7 ~{WE} (in), 8 ~{D0} (io), 9 ~{D1} (io), 10 ~{D2} (io), 11 ~{D3} (io), 12 ~{D4} (io), 13 ~{D5} (io), 14 ~{D6} (io), 15 ~{D7} (io), 16 ~{MR} (in), 17 ~{DTR} (out), 18 DRQO (out), 19 DRQI (out), 20 GND (power), 21 ~{A2} (in), 22 ~{A0} (in), 23 ~{A1} (in), 24 ~{MISCIN} (in), 25 TD (out), 26 ~{RC} (in), 27 RD (in), 28 ~{NRZI} (in), 29 ~{CTS} (in), 30 1/~{32} (in), 31 ~{TC} (in), 32 ~{RTS} (out), 33 ~{DSR} (in), 34 ~{RI} (in), 35 ~{RI1} (in), 36 ~{RI0} (in), 37 ~{CD1} (in), 38 ~{CD0} (in), 39 ~{CD} (in), 40 VCC (power)

## WD1935-10A
designator U?
Synchronous Data Link Controller; PackageDocument: 1984; Published: 8-Jun-2000; LatestRevisionDate: 4-Mar-2005; LatestRevisionNote: Stylized 3D Model Added.; DatasheetDocument: 1984; PackageReference: A40; Publisher: Altium Limited; ComponentLink1Description: Manufacturer Link; ComponentLink1URL: http://www.wdc.com/
footprint A40 (DIP; 40 Leads; Row Spacing 15.24 mm; Pitch 2.54 mm)
3D model A40 (DIP; 40 Leads; Row Spacing 15.24 mm; Pitch 2.54 mm)
pins: 1 NC, 2 ~{EOB} (in), 3 ~{RE} (in), 4 ~{CS} (in), 5 ~{MISCOUT} (out), 6 INTRQ (out), 7 ~{WE} (in), 8 ~{D0} (io), 9 ~{D1} (io), 10 ~{D2} (io), 11 ~{D3} (io), 12 ~{D4} (io), 13 ~{D5} (io), 14 ~{D6} (io), 15 ~{D7} (io), 16 ~{MR} (in), 17 ~{DTR} (out), 18 DRQO (out), 19 DRQI (out), 20 GND (power), 21 ~{A2} (in), 22 ~{A0} (in), 23 ~{A1} (in), 24 ~{MISCIN} (in), 25 TD (out), 26 ~{RC} (in), 27 RD (in), 28 ~{NRZI} (in), 29 ~{CTS} (in), 30 1/~{32} (in), 31 ~{TC} (in), 32 ~{RTS} (out), 33 ~{DSR} (in), 34 ~{RI} (in), 35 ~{RI1} (in), 36 ~{RI0} (in), 37 ~{CD1} (in), 38 ~{CD0} (in), 39 ~{CD} (in), 40 VCC (power)

## WD1935-10CL
designator U?
Synchronous Data Link Controller; PackageDocument: 1984; Published: 8-Jun-2000; LatestRevisionDate: 4-Mar-2005; LatestRevisionNote: Stylized 3D Model Added.; DatasheetDocument: 1984; PackageReference: CL40; Publisher: Altium Limited; ComponentLink1Description: Manufacturer Link; ComponentLink1URL: http://www.wdc.com/
footprint CL40 (DIP; 40 Leads; Row Spacing 15.24 mm; Pitch 2.54 mm)
3D model P40 (DIP; 40 Leads; Row Spacing 15.24 mm; Pitch 2.54 mm)
pins: 1 NC, 2 ~{EOB} (in), 3 ~{RE} (in), 4 ~{CS} (in), 5 ~{MISCOUT} (out), 6 INTRQ (out), 7 ~{WE} (in), 8 ~{D0} (io), 9 ~{D1} (io), 10 ~{D2} (io), 11 ~{D3} (io), 12 ~{D4} (io), 13 ~{D5} (io), 14 ~{D6} (io), 15 ~{D7} (io), 16 ~{MR} (in), 17 ~{DTR} (out), 18 DRQO (out), 19 DRQI (out), 20 GND (power), 21 ~{A2} (in), 22 ~{A0} (in), 23 ~{A1} (in), 24 ~{MISCIN} (in), 25 TD (out), 26 ~{RC} (in), 27 RD (in), 28 ~{NRZI} (in), 29 ~{CTS} (in), 30 1/~{32} (in), 31 ~{TC} (in), 32 ~{RTS} (out), 33 ~{DSR} (in), 34 ~{RI} (in), 35 ~{RI1} (in), 36 ~{RI0} (in), 37 ~{CD1} (in), 38 ~{CD0} (in), 39 ~{CD} (in), 40 VCC (power)

## WD1935-10P
designator U?
Synchronous Data Link Controller; PackageDocument: 1984; Published: 8-Jun-2000; LatestRevisionDate: 4-Mar-2005; LatestRevisionNote: Stylized 3D Model Added.; DatasheetDocument: 1984; PackageReference: P40; Publisher: Altium Limited; ComponentLink1Description: Manufacturer Link; ComponentLink1URL: http://www.wdc.com/
footprint P40 (DIP; 40 Leads; Row Spacing 15.24 mm; Pitch 2.54 mm)
3D model P40 (DIP; 40 Leads; Row Spacing 15.24 mm; Pitch 2.54 mm)
pins: 1 NC, 2 ~{EOB} (in), 3 ~{RE} (in), 4 ~{CS} (in), 5 ~{MISCOUT} (out), 6 INTRQ (out), 7 ~{WE} (in), 8 ~{D0} (io), 9 ~{D1} (io), 10 ~{D2} (io), 11 ~{D3} (io), 12 ~{D4} (io), 13 ~{D5} (io), 14 ~{D6} (io), 15 ~{D7} (io), 16 ~{MR} (in), 17 ~{DTR} (out), 18 DRQO (out), 19 DRQI (out), 20 GND (power), 21 ~{A2} (in), 22 ~{A0} (in), 23 ~{A1} (in), 24 ~{MISCIN} (in), 25 TD (out), 26 ~{RC} (in), 27 RD (in), 28 ~{NRZI} (in), 29 ~{CTS} (in), 30 1/~{32} (in), 31 ~{TC} (in), 32 ~{RTS} (out), 33 ~{DSR} (in), 34 ~{RI} (in), 35 ~{RI1} (in), 36 ~{RI0} (in), 37 ~{CD1} (in), 38 ~{CD0} (in), 39 ~{CD} (in), 40 VCC (power)

## WD1935-11A
designator U?
Synchronous Data Link Controller; PackageDocument: 1984; Published: 8-Jun-2000; LatestRevisionDate: 4-Mar-2005; LatestRevisionNote: Stylized 3D Model Added.; DatasheetDocument: 1984; PackageReference: A40; Publisher: Altium Limited; ComponentLink1Description: Manufacturer Link; ComponentLink1URL: http://www.wdc.com/
footprint A40 (DIP; 40 Leads; Row Spacing 15.24 mm; Pitch 2.54 mm)
3D model A40 (DIP; 40 Leads; Row Spacing 15.24 mm; Pitch 2.54 mm)
pins: 1 NC, 2 ~{EOB} (in), 3 ~{RE} (in), 4 ~{CS} (in), 5 ~{MISCOUT} (out), 6 INTRQ (out), 7 ~{WE} (in), 8 ~{D0} (io), 9 ~{D1} (io), 10 ~{D2} (io), 11 ~{D3} (io), 12 ~{D4} (io), 13 ~{D5} (io), 14 ~{D6} (io), 15 ~{D7} (io), 16 ~{MR} (in), 17 ~{DTR} (out), 18 DRQO (out), 19 DRQI (out), 20 GND (power), 21 ~{A2} (in), 22 ~{A0} (in), 23 ~{A1} (in), 24 ~{MISCIN} (in), 25 TD (out), 26 ~{RC} (in), 27 RD (in), 28 ~{NRZI} (in), 29 ~{CTS} (in), 30 1/~{32} (in), 31 ~{TC} (in), 32 ~{RTS} (out), 33 ~{DSR} (in), 34 ~{RI} (in), 35 ~{RI1} (in), 36 ~{RI0} (in), 37 ~{CD1} (in), 38 ~{CD0} (in), 39 ~{CD} (in), 40 VCC (power)

## WD1935-11CL
designator U?
Synchronous Data Link Controller; PackageDocument: 1984; Published: 8-Jun-2000; LatestRevisionDate: 4-Mar-2005; LatestRevisionNote: Stylized 3D Model Added.; DatasheetDocument: 1984; PackageReference: CL40; Publisher: Altium Limited; ComponentLink1Description: Manufacturer Link; ComponentLink1URL: http://www.wdc.com/
footprint CL40 (DIP; 40 Leads; Row Spacing 15.24 mm; Pitch 2.54 mm)
3D model P40 (DIP; 40 Leads; Row Spacing 15.24 mm; Pitch 2.54 mm)
pins: 1 NC, 2 ~{EOB} (in), 3 ~{RE} (in), 4 ~{CS} (in), 5 ~{MISCOUT} (out), 6 INTRQ (out), 7 ~{WE} (in), 8 ~{D0} (io), 9 ~{D1} (io), 10 ~{D2} (io), 11 ~{D3} (io), 12 ~{D4} (io), 13 ~{D5} (io), 14 ~{D6} (io), 15 ~{D7} (io), 16 ~{MR} (in), 17 ~{DTR} (out), 18 DRQO (out), 19 DRQI (out), 20 GND (power), 21 ~{A2} (in), 22 ~{A0} (in), 23 ~{A1} (in), 24 ~{MISCIN} (in), 25 TD (out), 26 ~{RC} (in), 27 RD (in), 28 ~{NRZI} (in), 29 ~{CTS} (in), 30 1/~{32} (in), 31 ~{TC} (in), 32 ~{RTS} (out), 33 ~{DSR} (in), 34 ~{RI} (in), 35 ~{RI1} (in), 36 ~{RI0} (in), 37 ~{CD1} (in), 38 ~{CD0} (in), 39 ~{CD} (in), 40 VCC (power)

## WD1935-11P
designator U?
Synchronous Data Link Controller; PackageDocument: 1984; Published: 8-Jun-2000; LatestRevisionDate: 4-Mar-2005; LatestRevisionNote: Stylized 3D Model Added.; DatasheetDocument: 1984; PackageReference: P40; Publisher: Altium Limited; ComponentLink1Description: Manufacturer Link; ComponentLink1URL: http://www.wdc.com/
footprint P40 (DIP; 40 Leads; Row Spacing 15.24 mm; Pitch 2.54 mm)
3D model P40 (DIP; 40 Leads; Row Spacing 15.24 mm; Pitch 2.54 mm)
pins: 1 NC, 2 ~{EOB} (in), 3 ~{RE} (in), 4 ~{CS} (in), 5 ~{MISCOUT} (out), 6 INTRQ (out), 7 ~{WE} (in), 8 ~{D0} (io), 9 ~{D1} (io), 10 ~{D2} (io), 11 ~{D3} (io), 12 ~{D4} (io), 13 ~{D5} (io), 14 ~{D6} (io), 15 ~{D7} (io), 16 ~{MR} (in), 17 ~{DTR} (out), 18 DRQO (out), 19 DRQI (out), 20 GND (power), 21 ~{A2} (in), 22 ~{A0} (in), 23 ~{A1} (in), 24 ~{MISCIN} (in), 25 TD (out), 26 ~{RC} (in), 27 RD (in), 28 ~{NRZI} (in), 29 ~{CTS} (in), 30 1/~{32} (in), 31 ~{TC} (in), 32 ~{RTS} (out), 33 ~{DSR} (in), 34 ~{RI} (in), 35 ~{RI1} (in), 36 ~{RI0} (in), 37 ~{CD1} (in), 38 ~{CD0} (in), 39 ~{CD} (in), 40 VCC (power)

## WD1935-12A
designator U?
Synchronous Data Link Controller; PackageDocument: 1984; Published: 8-Jun-2000; LatestRevisionDate: 4-Mar-2005; LatestRevisionNote: Stylized 3D Model Added.; DatasheetDocument: 1984; PackageReference: A40; Publisher: Altium Limited; ComponentLink1Description: Manufacturer Link; ComponentLink1URL: http://www.wdc.com/
footprint A40 (DIP; 40 Leads; Row Spacing 15.24 mm; Pitch 2.54 mm)
3D model A40 (DIP; 40 Leads; Row Spacing 15.24 mm; Pitch 2.54 mm)
pins: 1 NC, 2 ~{EOB} (in), 3 ~{RE} (in), 4 ~{CS} (in), 5 ~{MISCOUT} (out), 6 INTRQ (out), 7 ~{WE} (in), 8 ~{D0} (io), 9 ~{D1} (io), 10 ~{D2} (io), 11 ~{D3} (io), 12 ~{D4} (io), 13 ~{D5} (io), 14 ~{D6} (io), 15 ~{D7} (io), 16 ~{MR} (in), 17 ~{DTR} (out), 18 DRQO (out), 19 DRQI (out), 20 GND (power), 21 ~{A2} (in), 22 ~{A0} (in), 23 ~{A1} (in), 24 ~{MISCIN} (in), 25 TD (out), 26 ~{RC} (in), 27 RD (in), 28 ~{NRZI} (in), 29 ~{CTS} (in), 30 1/~{32} (in), 31 ~{TC} (in), 32 ~{RTS} (out), 33 ~{DSR} (in), 34 ~{RI} (in), 35 ~{RI1} (in), 36 ~{RI0} (in), 37 ~{CD1} (in), 38 ~{CD0} (in), 39 ~{CD} (in), 40 VCC (power)

## WD1935-12CL
designator U?
Synchronous Data Link Controller; PackageDocument: 1984; Published: 8-Jun-2000; LatestRevisionDate: 4-Mar-2005; LatestRevisionNote: Stylized 3D Model Added.; DatasheetDocument: 1984; PackageReference: CL40; Publisher: Altium Limited; ComponentLink1Description: Manufacturer Link; ComponentLink1URL: http://www.wdc.com/
footprint CL40 (DIP; 40 Leads; Row Spacing 15.24 mm; Pitch 2.54 mm)
3D model P40 (DIP; 40 Leads; Row Spacing 15.24 mm; Pitch 2.54 mm)
pins: 1 NC, 2 ~{EOB} (in), 3 ~{RE} (in), 4 ~{CS} (in), 5 ~{MISCOUT} (out), 6 INTRQ (out), 7 ~{WE} (in), 8 ~{D0} (io), 9 ~{D1} (io), 10 ~{D2} (io), 11 ~{D3} (io), 12 ~{D4} (io), 13 ~{D5} (io), 14 ~{D6} (io), 15 ~{D7} (io), 16 ~{MR} (in), 17 ~{DTR} (out), 18 DRQO (out), 19 DRQI (out), 20 GND (power), 21 ~{A2} (in), 22 ~{A0} (in), 23 ~{A1} (in), 24 ~{MISCIN} (in), 25 TD (out), 26 ~{RC} (in), 27 RD (in), 28 ~{NRZI} (in), 29 ~{CTS} (in), 30 1/~{32} (in), 31 ~{TC} (in), 32 ~{RTS} (out), 33 ~{DSR} (in), 34 ~{RI} (in), 35 ~{RI1} (in), 36 ~{RI0} (in), 37 ~{CD1} (in), 38 ~{CD0} (in), 39 ~{CD} (in), 40 VCC (power)

## WD1935-12P
designator U?
Synchronous Data Link Controller; PackageDocument: 1984; Published: 8-Jun-2000; LatestRevisionDate: 4-Mar-2005; LatestRevisionNote: Stylized 3D Model Added.; DatasheetDocument: 1984; PackageReference: P40; Publisher: Altium Limited; ComponentLink1Description: Manufacturer Link; ComponentLink1URL: http://www.wdc.com/
footprint P40 (DIP; 40 Leads; Row Spacing 15.24 mm; Pitch 2.54 mm)
3D model P40 (DIP; 40 Leads; Row Spacing 15.24 mm; Pitch 2.54 mm)
pins: 1 NC, 2 ~{EOB} (in), 3 ~{RE} (in), 4 ~{CS} (in), 5 ~{MISCOUT} (out), 6 INTRQ (out), 7 ~{WE} (in), 8 ~{D0} (io), 9 ~{D1} (io), 10 ~{D2} (io), 11 ~{D3} (io), 12 ~{D4} (io), 13 ~{D5} (io), 14 ~{D6} (io), 15 ~{D7} (io), 16 ~{MR} (in), 17 ~{DTR} (out), 18 DRQO (out), 19 DRQI (out), 20 GND (power), 21 ~{A2} (in), 22 ~{A0} (in), 23 ~{A1} (in), 24 ~{MISCIN} (in), 25 TD (out), 26 ~{RC} (in), 27 RD (in), 28 ~{NRZI} (in), 29 ~{CTS} (in), 30 1/~{32} (in), 31 ~{TC} (in), 32 ~{RTS} (out), 33 ~{DSR} (in), 34 ~{RI} (in), 35 ~{RI1} (in), 36 ~{RI0} (in), 37 ~{CD1} (in), 38 ~{CD0} (in), 39 ~{CD} (in), 40 VCC (power)

## WD1935-13A
designator U?
Synchronous Data Link Controller; PackageDocument: 1984; Published: 8-Jun-2000; LatestRevisionDate: 4-Mar-2005; LatestRevisionNote: Stylized 3D Model Added.; DatasheetDocument: 1984; PackageReference: A40; Publisher: Altium Limited; ComponentLink1Description: Manufacturer Link; ComponentLink1URL: http://www.wdc.com/
footprint A40 (DIP; 40 Leads; Row Spacing 15.24 mm; Pitch 2.54 mm)
3D model A40 (DIP; 40 Leads; Row Spacing 15.24 mm; Pitch 2.54 mm)
pins: 1 NC, 2 ~{EOB} (in), 3 ~{RE} (in), 4 ~{CS} (in), 5 ~{MISCOUT} (out), 6 INTRQ (out), 7 ~{WE} (in), 8 ~{D0} (io), 9 ~{D1} (io), 10 ~{D2} (io), 11 ~{D3} (io), 12 ~{D4} (io), 13 ~{D5} (io), 14 ~{D6} (io), 15 ~{D7} (io), 16 ~{MR} (in), 17 ~{DTR} (out), 18 DRQO (out), 19 DRQI (out), 20 GND (power), 21 ~{A2} (in), 22 ~{A0} (in), 23 ~{A1} (in), 24 ~{MISCIN} (in), 25 TD (out), 26 ~{RC} (in), 27 RD (in), 28 ~{NRZI} (in), 29 ~{CTS} (in), 30 1/~{32} (in), 31 ~{TC} (in), 32 ~{RTS} (out), 33 ~{DSR} (in), 34 ~{RI} (in), 35 ~{RI1} (in), 36 ~{RI0} (in), 37 ~{CD1} (in), 38 ~{CD0} (in), 39 ~{CD} (in), 40 VCC (power)

## WD1935-13CL
designator U?
Synchronous Data Link Controller; PackageDocument: 1984; Published: 8-Jun-2000; LatestRevisionDate: 4-Mar-2005; LatestRevisionNote: Stylized 3D Model Added.; DatasheetDocument: 1984; PackageReference: CL40; Publisher: Altium Limited; ComponentLink1Description: Manufacturer Link; ComponentLink1URL: http://www.wdc.com/
footprint CL40 (DIP; 40 Leads; Row Spacing 15.24 mm; Pitch 2.54 mm)
3D model P40 (DIP; 40 Leads; Row Spacing 15.24 mm; Pitch 2.54 mm)
pins: 1 NC, 2 ~{EOB} (in), 3 ~{RE} (in), 4 ~{CS} (in), 5 ~{MISCOUT} (out), 6 INTRQ (out), 7 ~{WE} (in), 8 ~{D0} (io), 9 ~{D1} (io), 10 ~{D2} (io), 11 ~{D3} (io), 12 ~{D4} (io), 13 ~{D5} (io), 14 ~{D6} (io), 15 ~{D7} (io), 16 ~{MR} (in), 17 ~{DTR} (out), 18 DRQO (out), 19 DRQI (out), 20 GND (power), 21 ~{A2} (in), 22 ~{A0} (in), 23 ~{A1} (in), 24 ~{MISCIN} (in), 25 TD (out), 26 ~{RC} (in), 27 RD (in), 28 ~{NRZI} (in), 29 ~{CTS} (in), 30 1/~{32} (in), 31 ~{TC} (in), 32 ~{RTS} (out), 33 ~{DSR} (in), 34 ~{RI} (in), 35 ~{RI1} (in), 36 ~{RI0} (in), 37 ~{CD1} (in), 38 ~{CD0} (in), 39 ~{CD} (in), 40 VCC (power)

## WD1935-13P
designator U?
Synchronous Data Link Controller; PackageDocument: 1984; Published: 8-Jun-2000; LatestRevisionDate: 4-Mar-2005; LatestRevisionNote: Stylized 3D Model Added.; DatasheetDocument: 1984; PackageReference: P40; Publisher: Altium Limited; ComponentLink1Description: Manufacturer Link; ComponentLink1URL: http://www.wdc.com/
footprint P40 (DIP; 40 Leads; Row Spacing 15.24 mm; Pitch 2.54 mm)
3D model P40 (DIP; 40 Leads; Row Spacing 15.24 mm; Pitch 2.54 mm)
pins: 1 NC, 2 ~{EOB} (in), 3 ~{RE} (in), 4 ~{CS} (in), 5 ~{MISCOUT} (out), 6 INTRQ (out), 7 ~{WE} (in), 8 ~{D0} (io), 9 ~{D1} (io), 10 ~{D2} (io), 11 ~{D3} (io), 12 ~{D4} (io), 13 ~{D5} (io), 14 ~{D6} (io), 15 ~{D7} (io), 16 ~{MR} (in), 17 ~{DTR} (out), 18 DRQO (out), 19 DRQI (out), 20 GND (power), 21 ~{A2} (in), 22 ~{A0} (in), 23 ~{A1} (in), 24 ~{MISCIN} (in), 25 TD (out), 26 ~{RC} (in), 27 RD (in), 28 ~{NRZI} (in), 29 ~{CTS} (in), 30 1/~{32} (in), 31 ~{TC} (in), 32 ~{RTS} (out), 33 ~{DSR} (in), 34 ~{RI} (in), 35 ~{RI1} (in), 36 ~{RI0} (in), 37 ~{CD1} (in), 38 ~{CD0} (in), 39 ~{CD} (in), 40 VCC (power)

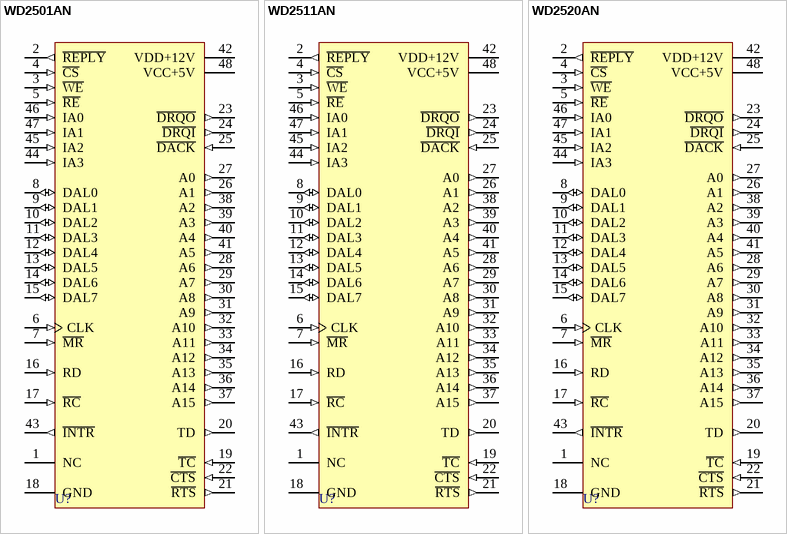
[diagram p2: symbols WD2501AN to WD2520AN]

## WD2501AN
designator U?
X.25 Packet Network Interface; PackageDocument: 1984; Published: 8-Jun-2000; LatestRevisionDate: 4-Mar-2005; LatestRevisionNote: Stylized 3D Model Added.; DatasheetDocument: 1984; PackageReference: AN48; Publisher: Altium Limited; ComponentLink1Description: Manufacturer Link; ComponentLink1URL: http://www.wdc.com/
footprint AN48 (DIP; 48 Leads; Row Spacing 15.24 mm; Pitch 2.54 mm)
3D model AN48 (DIP; 48 Leads; Row Spacing 15.24 mm; Pitch 2.54 mm)
pins: 1 NC, 2 ~{REPLY} (out), 3 ~{WE} (in), 4 ~{CS} (in), 5 ~{RE} (in), 6 CLK (in), 7 ~{MR} (in), 8 DAL0 (io), 9 DAL1 (io), 10 DAL2 (io), 11 DAL3 (io), 12 DAL4 (io), 13 DAL5 (io), 14 DAL6 (io), 15 DAL7 (io), 16 RD (in), 17 ~{RC} (in), 18 GND (power), 19 ~{TC} (in), 20 TD (out), 21 ~{RTS} (out), 22 ~{CTS} (in), 23 ~{DRQO} (out), 24 ~{DRQI} (out), 25 ~{DACK} (in), 26 A1 (out), 27 A0 (out), 28 A6 (out), 29 A7 (out), 30 A8 (out), 31 A9 (out), 32 A10 (out), 33 A11 (out), 34 A12 (out), 35 A13 (out), 36 A14 (out), 37 A15 (out), 38 A2 (out), 39 A3 (out), 40 A4 (out), 41 A5 (out), 42 VDD+12V (power), 43 ~{INTR} (out), 44 IA3 (in), 45 IA2 (in), 46 IA0 (in), 47 IA1 (in), 48 VCC+5V (power)

## WD2511AN
designator U?
X.25 Packet Network Interface; PackageDocument: 1984; Published: 8-Jun-2000; LatestRevisionDate: 4-Mar-2005; LatestRevisionNote: Stylized 3D Model Added.; DatasheetDocument: 1984; PackageReference: AN48; Publisher: Altium Limited; ComponentLink1Description: Manufacturer Link; ComponentLink1URL: http://www.wdc.com/
footprint AN48 (DIP; 48 Leads; Row Spacing 15.24 mm; Pitch 2.54 mm)
3D model AN48 (DIP; 48 Leads; Row Spacing 15.24 mm; Pitch 2.54 mm)
pins: 1 NC, 2 ~{REPLY} (out), 3 ~{WE} (in), 4 ~{CS} (in), 5 ~{RE} (in), 6 CLK (in), 7 ~{MR} (in), 8 DAL0 (io), 9 DAL1 (io), 10 DAL2 (io), 11 DAL3 (io), 12 DAL4 (io), 13 DAL5 (io), 14 DAL6 (io), 15 DAL7 (io), 16 RD (in), 17 ~{RC} (in), 18 GND (power), 19 ~{TC} (in), 20 TD (out), 21 ~{RTS} (out), 22 ~{CTS} (in), 23 ~{DRQO} (out), 24 ~{DRQI} (out), 25 ~{DACK} (in), 26 A1 (out), 27 A0 (out), 28 A6 (out), 29 A7 (out), 30 A8 (out), 31 A9 (out), 32 A10 (out), 33 A11 (out), 34 A12 (out), 35 A13 (out), 36 A14 (out), 37 A15 (out), 38 A2 (out), 39 A3 (out), 40 A4 (out), 41 A5 (out), 42 VDD+12V (power), 43 ~{INTR} (out), 44 IA3 (in), 45 IA2 (in), 46 IA0 (in), 47 IA1 (in), 48 VCC+5V (power)

## WD2520AN
designator U?
Signalling Link Controller; PackageDocument: 1984; Published: 8-Jun-2000; LatestRevisionDate: 4-Mar-2005; LatestRevisionNote: Stylized 3D Model Added.; DatasheetDocument: 1984; PackageReference: AN48; Publisher: Altium Limited; ComponentLink1Description: Manufacturer Link; ComponentLink1URL: http://www.wdc.com/
footprint AN48 (DIP; 48 Leads; Row Spacing 15.24 mm; Pitch 2.54 mm)
3D model AN48 (DIP; 48 Leads; Row Spacing 15.24 mm; Pitch 2.54 mm)
pins: 1 NC, 2 ~{REPLY} (out), 3 ~{WE} (in), 4 ~{CS} (in), 5 ~{RE} (in), 6 CLK (in), 7 ~{MR} (in), 8 DAL0 (io), 9 DAL1 (io), 10 DAL2 (io), 11 DAL3 (io), 12 DAL4 (io), 13 DAL5 (io), 14 DAL6 (io), 15 DAL7 (io), 16 RD (in), 17 ~{RC} (in), 18 GND (power), 19 ~{TC} (in), 20 TD (out), 21 ~{RTS} (out), 22 ~{CTS} (in), 23 ~{DRQO} (out), 24 ~{DRQI} (out), 25 ~{DACK} (in), 26 A1 (out), 27 A0 (out), 28 A6 (out), 29 A7 (out), 30 A8 (out), 31 A9 (out), 32 A10 (out), 33 A11 (out), 34 A12 (out), 35 A13 (out), 36 A14 (out), 37 A15 (out), 38 A2 (out), 39 A3 (out), 40 A4 (out), 41 A5 (out), 42 VDD+12V (power), 43 ~{INTR} (out), 44 IA3 (in), 45 IA2 (in), 46 IA0 (in), 47 IA1 (in), 48 VCC+5V (power)